# Altium footprint library NEW_PCB_2021-12-20.PcbLib: 1 footprints
Each footprint in its own frame and in the unit in brackets; x right, y up, seen from the top. Pads: shape width x height; smd on the part's side, far side on the other; paste and mask are expansions set on the pad; w line width, h text height; cw(c..) or ccw(c..) is an arc to the next point about the centre after c.
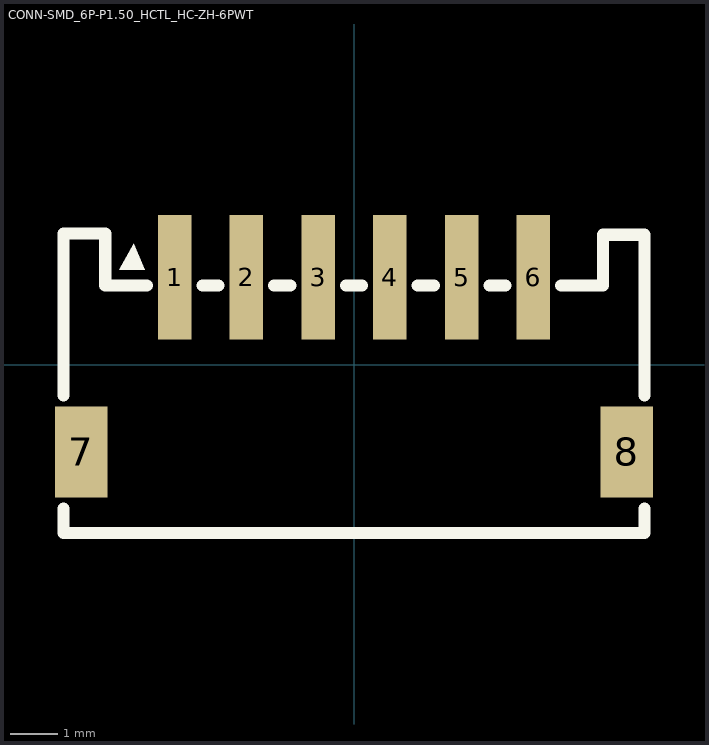
[diagram p0: the footprint, top view; thin cyan lines are the x and y axes]

## CONN-SMD_6P-P1.50_HCTL_HC-ZH-6PWT [mm]
pads (8):
  rect 0.7x2.6 smd: 1(-3.75,1.825) 2(-2.25,1.825) 3(-0.75,1.825) 4(0.75,1.825) 5(2.25,1.825) 6(3.75,1.825)
  rect 1.1x1.9 smd: 7(-5.7,-1.825) 8(5.7,-1.825)
Top Overlay:
  region: -4.6,2.53 -4.91,1.98 -4.39,1.98 -4.37,1.98
  lines w0.254: -6.07,-0.644 -6.07,2.74 -5.2,2.74 -5.2,1.65 -4.331,1.65 ; -6.069,-3.006 -6.069,-3.519 6.069,-3.519 6.069,-3.006 ; -3.169,1.65 -2.831,1.65 ; -1.669,1.65 -1.331,1.65 ; -0.169,1.65 0.169,1.65 ; 1.331,1.65 1.669,1.65 ; 2.831,1.65 3.169,1.65 ; 4.331,1.65 5.207,1.65 ; 5.207,1.698 5.207,2.714 6.069,2.714 6.069,-0.644